# Altium schematic symbol library LTC1751EMS8-5#PBF.SchLib: 1 symbol
Pins are listed as number, name and electrical type; pins without a type are passive.

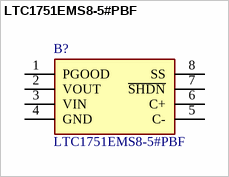
[diagram p0: symbol LTC1751EMS8-5#PBF]

## LTC1751EMS8-5#PBF
designator B?
Charge Pump STPUP 5V 100mA 8-Pin MSOP Tube; Manufacturer_Name: Analog Devices; Geometry.Height: 1.1mm; Mouser Part Number: 584-LTC1751EMS8-5PBF; Mouser Price/Stock: https://www.mouser.co.uk/ProductDetail/Analog-Devices/LTC1751EMS8-5PBF/?qs=hVkxg5c3xu%252BX6Q6vFq4XxA%3D%3D; Manufacturer_Part_Number: LTC1751EMS8-5#PBF; Datasheet Link: https://www.arrow.com/en/products/ltc1751ems8-5pbf/analog-devices
footprint SOP65P490X110-8N
pins: 1 PGOOD, 2 VOUT, 3 VIN, 4 GND, 5 C-, 6 C+, 7 ~{SHDN}, 8 SS